# EAGLE library part MOD-NRF9160-SICA-R (library wolff-den)
NRF9160-SICA-R
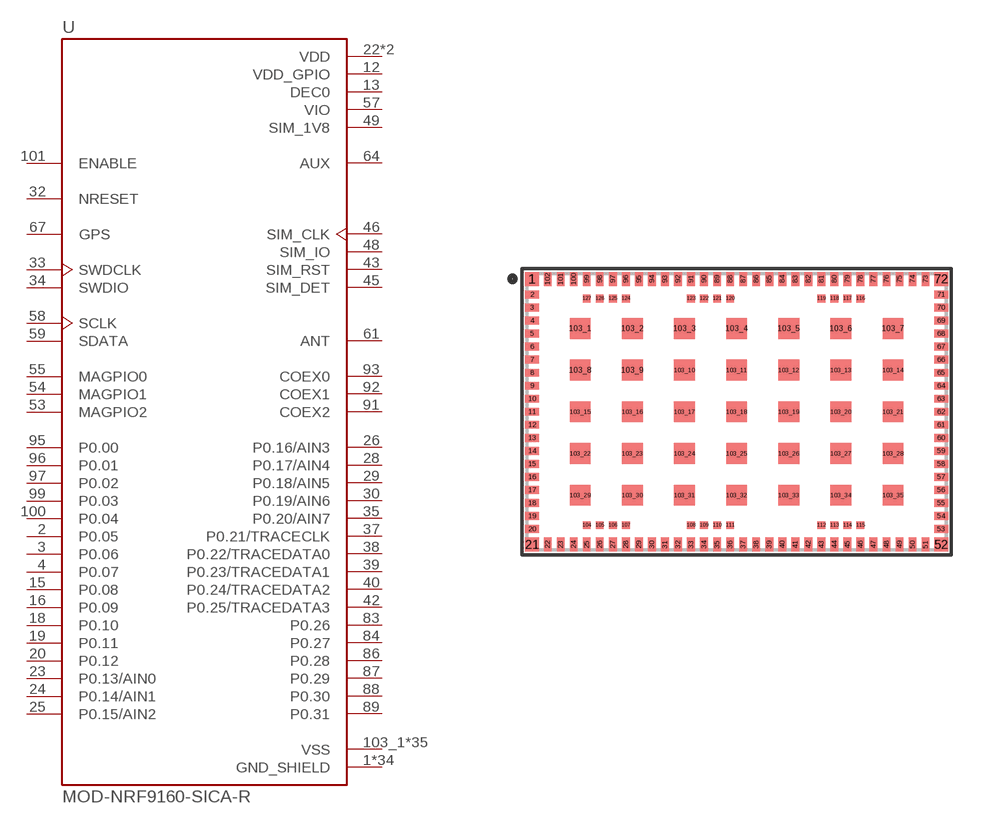
[diagram p11: symbol with the pads of NORDIC_NRF9160-SICA-R; footprint NORDIC_NRF9160-SICA-R]

Designator prefix U

## MOD-NRF9160-SICA-R (DESC: IC RF TXRX+MCU CELL LTE-M/NB-IOT; DIGIKEYPN: 1490-1076-1-ND; MF: Nordic Semiconductor; MPN: NRF9160-SICA-R)  [NORDIC_NRF9160-SICA-R]
1  GND_SHIELD  pwr
2  P0.05
3  P0.06
4  P0.07
5  GND_SHIELD  pwr
9  GND_SHIELD  pwr
12  VDD_GPIO  pwr
13  DEC0  pwr
14  GND_SHIELD  pwr
15  P0.08
16  P0.09
17  GND_SHIELD  pwr
18  P0.10
19  P0.11
20  P0.12
21  GND_SHIELD  pwr
22  VDD  pwr
23  P0.13/AIN0
24  P0.14/AIN1
25  P0.15/AIN2
26  P0.16/AIN3
27  GND_SHIELD  pwr
28  P0.17/AIN4
29  P0.18/AIN5
30  P0.19/AIN6
31  GND_SHIELD  pwr
32  NRESET  in
33  SWDCLK  in
34  SWDIO
35  P0.20/AIN7
36  GND_SHIELD  pwr
37  P0.21/TRACECLK
38  P0.22/TRACEDATA0
39  P0.23/TRACEDATA1
40  P0.24/TRACEDATA2
41  GND_SHIELD  pwr
42  P0.25/TRACEDATA3
43  SIM_RST
44  GND_SHIELD  pwr
45  SIM_DET
46  SIM_CLK
47  GND_SHIELD  pwr
48  SIM_IO
49  SIM_1V8  pwr
50  GND_SHIELD  pwr
52  GND_SHIELD  pwr
53  MAGPIO2
54  MAGPIO1
55  MAGPIO0
56  GND_SHIELD  pwr
57  VIO  pwr
58  SCLK
59  SDATA
60  GND_SHIELD  pwr
61  ANT
62  GND_SHIELD  pwr
63  GND_SHIELD  pwr
64  AUX  out
65  GND_SHIELD  pwr
66  GND_SHIELD  pwr
67  GPS  in
72  GND_SHIELD  pwr
74  GND_SHIELD  pwr
75  GND_SHIELD  pwr
76  GND_SHIELD  pwr
77  GND_SHIELD  pwr
78  GND_SHIELD  pwr
79  GND_SHIELD  pwr
80  GND_SHIELD  pwr
81  GND_SHIELD  pwr
82  GND_SHIELD  pwr
83  P0.26
84  P0.27
85  GND_SHIELD  pwr
86  P0.28
87  P0.29
88  P0.30
89  P0.31
90  GND_SHIELD  pwr
91  COEX2
92  COEX1
93  COEX0
94  GND_SHIELD  pwr
95  P0.00
96  P0.01
97  P0.02
98  GND_SHIELD  pwr
99  P0.03
100  P0.04
101  ENABLE  in
102  VDD  pwr
103_1  VSS  pwr
103_2  VSS  pwr
103_3  VSS  pwr
103_4  VSS  pwr
103_5  VSS  pwr
103_6  VSS  pwr
103_7  VSS  pwr
103_8  VSS  pwr
103_9  VSS  pwr
103_10  VSS  pwr
103_11  VSS  pwr
103_12  VSS  pwr
103_13  VSS  pwr
103_14  VSS  pwr
103_15  VSS  pwr
103_16  VSS  pwr
103_17  VSS  pwr
103_18  VSS  pwr
103_19  VSS  pwr
103_20  VSS  pwr
103_21  VSS  pwr
103_22  VSS  pwr
103_23  VSS  pwr
103_24  VSS  pwr
103_25  VSS  pwr
103_26  VSS  pwr
103_27  VSS  pwr
103_28  VSS  pwr
103_29  VSS  pwr
103_30  VSS  pwr
103_31  VSS  pwr
103_32  VSS  pwr
103_33  VSS  pwr
103_34  VSS  pwr
103_35  VSS  pwr

## Footprint NORDIC_NRF9160-SICA-R (pad centres in mm)
smd 0.54 x 0.54: 1 -7.845,5.095; 21 -7.845,-5.095; 52 7.845,-5.095; 72 7.845,5.095
smd 0.54 x 0.3: 2 -7.845,4.5; 3 -7.845,4; 4 -7.845,3.5; 5 -7.845,3; 6 -7.845,2.5; 7 -7.845,2; 8 -7.845,1.5; 9 -7.845,1; 10 -7.845,0.5; 11 -7.845,0; 12 -7.845,-0.5; 13 -7.845,-1; 14 -7.845,-1.5; 15 -7.845,-2; 16 -7.845,-2.5; 17 -7.845,-3; 18 -7.845,-3.5; 19 -7.845,-4; 20 -7.845,-4.5; 53 7.845,-4.5; 54 7.845,-4; 55 7.845,-3.5; 56 7.845,-3; 57 7.845,-2.5; 58 7.845,-2; 59 7.845,-1.5; 60 7.845,-1; 61 7.845,-0.5; 62 7.845,0; 63 7.845,0.5; 64 7.845,1; 65 7.845,1.5; 66 7.845,2; 67 7.845,2.5; 68 7.845,3; 69 7.845,3.5; 70 7.845,4; 71 7.845,4.5
smd 0.3 x 0.54: 22 -7.25,-5.095; 23 -6.75,-5.095; 24 -6.25,-5.095; 25 -5.75,-5.095; 26 -5.25,-5.095; 27 -4.75,-5.095; 28 -4.25,-5.095; 29 -3.75,-5.095; 30 -3.25,-5.095; 31 -2.75,-5.095; 32 -2.25,-5.095; 33 -1.75,-5.095; 34 -1.25,-5.095; 35 -0.75,-5.095; 36 -0.25,-5.095; 37 0.25,-5.095; 38 0.75,-5.095; 39 1.25,-5.095; 40 1.75,-5.095; 41 2.25,-5.095; 42 2.75,-5.095; 43 3.25,-5.095; 44 3.75,-5.095; 45 4.25,-5.095; 46 4.75,-5.095; 47 5.25,-5.095; 48 5.75,-5.095; 49 6.25,-5.095; 50 6.75,-5.095; 51 7.25,-5.095; 73 7.25,5.095; 74 6.75,5.095; 75 6.25,5.095; 76 5.75,5.095; 77 5.25,5.095; 78 4.75,5.095; 79 4.25,5.095; 80 3.75,5.095; 81 3.25,5.095; 82 2.75,5.095; 83 2.25,5.095; 84 1.75,5.095; 85 1.25,5.095; 86 0.75,5.095; 87 0.25,5.095; 88 -0.25,5.095; 89 -0.75,5.095; 90 -1.25,5.095; 91 -1.75,5.095; 92 -2.25,5.095; 93 -2.75,5.095; 94 -3.25,5.095; 95 -3.75,5.095; 96 -4.25,5.095; 97 -4.75,5.095; 98 -5.25,5.095; 99 -5.75,5.095; 100 -6.25,5.095; 101 -6.75,5.095; 102 -7.25,5.095
smd 0.8 x 0.8: 103_1 -6,3.2; 103_2 -4,3.2; 103_3 -2,3.2; 103_4 0,3.2; 103_5 2,3.2; 103_6 4,3.2; 103_7 6,3.2; 103_8 -6,1.6; 103_9 -4,1.6; 103_10 -2,1.6; 103_11 0,1.6; 103_12 2,1.6; 103_13 4,1.6; 103_14 6,1.6; 103_15 -6,0; 103_16 -4,0; 103_17 -2,0; 103_18 0,0; 103_19 2,0; 103_20 4,0; 103_21 6,0; 103_22 -6,-1.6; 103_23 -4,-1.6; 103_24 -2,-1.6; 103_25 0,-1.6; 103_26 2,-1.6; 103_27 4,-1.6; 103_28 6,-1.6; 103_29 -6,-3.2; 103_30 -4,-3.2; 103_31 -2,-3.2; 103_32 0,-3.2; 103_33 2,-3.2; 103_34 4,-3.2; 103_35 6,-3.2
smd 0.3 x 0.3: 104 -5.75,-4.35; 105 -5.25,-4.35; 106 -4.75,-4.35; 107 -4.25,-4.35; 108 -1.75,-4.35; 109 -1.25,-4.35; 110 -0.75,-4.35; 111 -0.25,-4.35; 112 3.25,-4.35; 113 3.75,-4.35; 114 4.25,-4.35; 115 4.75,-4.35; 116 4.75,4.35; 117 4.25,4.35; 118 3.75,4.35; 119 3.25,4.35; 120 -0.25,4.35; 121 -0.75,4.35; 122 -1.25,4.35; 123 -1.75,4.35; 124 -4.25,4.35; 125 -4.75,4.35; 126 -5.25,4.35; 127 -5.75,4.35